# EAGLE library part TANG-PRIMER-25K_B (library TangPrimer25K_Dual - Copy)
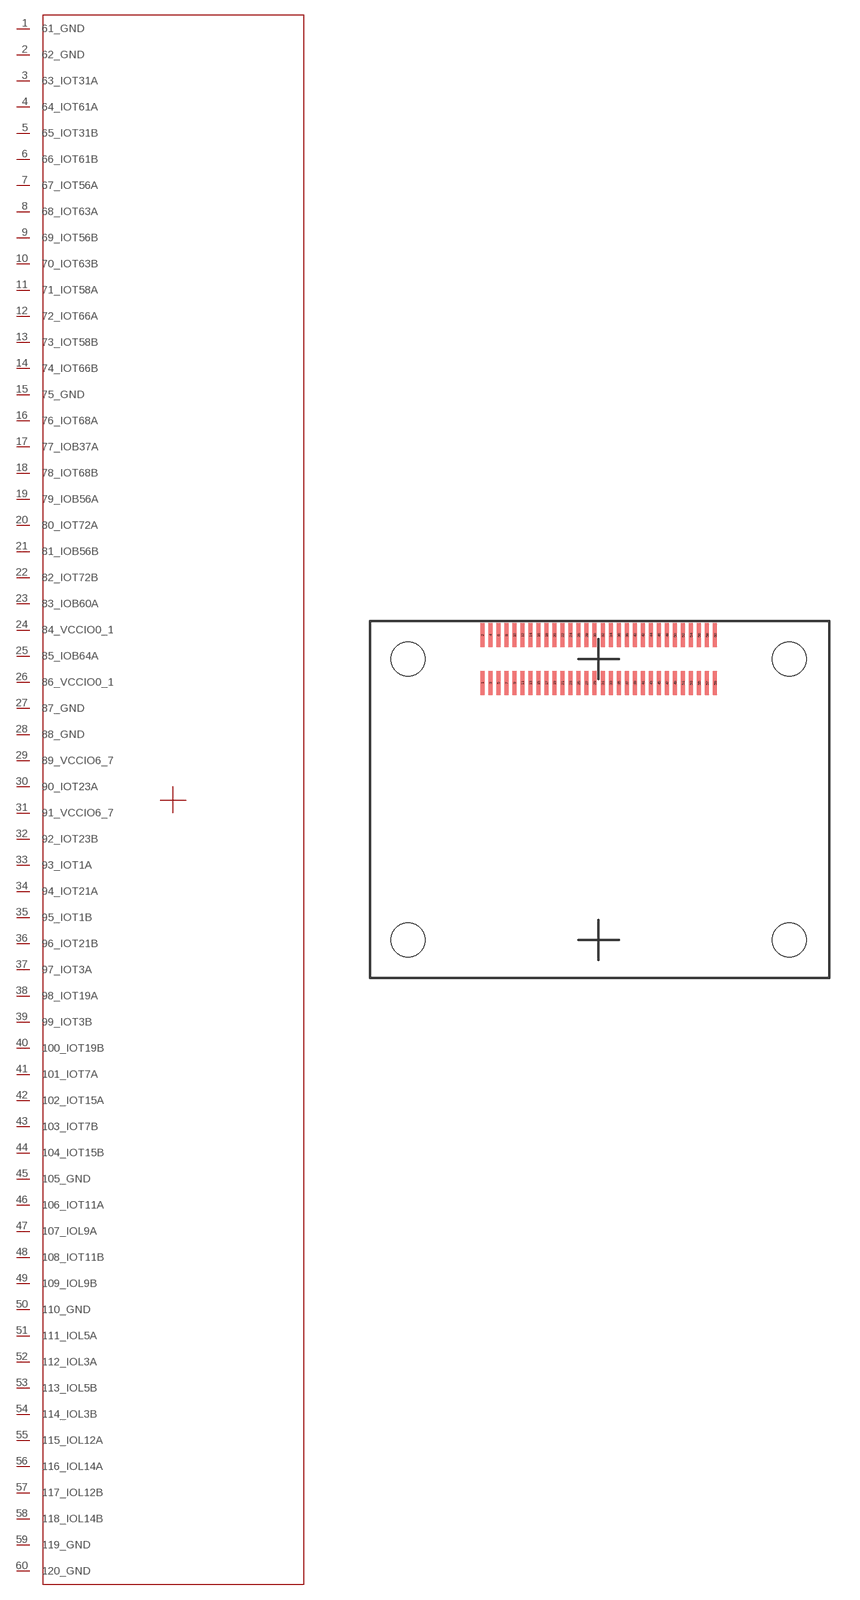
[diagram p0: symbol with the pads of SIPEED-TANG-PRIMER-25K_B; footprint SIPEED-TANG-PRIMER-25K_B]

Designator prefix U_B

## TANG-PRIMER-25K_B  [SIPEED-TANG-PRIMER-25K_B]
1  61_GND  pwr
2  62_GND  pwr
3  63_IOT31A
4  64_IOT61A
5  65_IOT31B
6  66_IOT61B
7  67_IOT56A
8  68_IOT63A
9  69_IOT56B
10  70_IOT63B
11  71_IOT58A
12  72_IOT66A
13  73_IOT58B
14  74_IOT66B
15  75_GND  pwr
16  76_IOT68A
17  77_IOB37A
18  78_IOT68B
19  79_IOB56A
20  80_IOT72A
21  81_IOB56B
22  82_IOT72B
23  83_IOB60A
24  84_VCCIO0_1  pwr
25  85_IOB64A
26  86_VCCIO0_1  pwr
27  87_GND  pwr
28  88_GND  pwr
29  89_VCCIO6_7  pwr
30  90_IOT23A
31  91_VCCIO6_7  pwr
32  92_IOT23B
33  93_IOT1A
34  94_IOT21A
35  95_IOT1B
36  96_IOT21B
37  97_IOT3A
38  98_IOT19A
39  99_IOT3B
40  100_IOT19B
41  101_IOT7A
42  102_IOT15A
43  103_IOT7B
44  104_IOT15B
45  105_GND  pwr
46  106_IOT11A
47  107_IOL9A
48  108_IOT11B
49  109_IOL9B
50  110_GND  pwr
51  111_IOL5A
52  112_IOL3A
53  113_IOL5B
54  114_IOL3B
55  115_IOL12A
56  116_IOL14A
57  117_IOL12B
58  118_IOL14B
59  119_GND  pwr
60  120_GND  pwr

## Footprint SIPEED-TANG-PRIMER-25K_B (pad centres in mm)
smd 0.2 x 1.2: 1 -5.8,-1.19; 2 -5.8,1.19; 3 -5.4,-1.19; 4 -5.4,1.19; 5 -5,-1.19; 6 -5,1.19; 7 -4.6,-1.19; 8 -4.6,1.19; 9 -4.2,-1.19; 10 -4.2,1.19; 11 -3.8,-1.19; 12 -3.8,1.19; 13 -3.4,-1.19; 14 -3.4,1.19; 15 -3,-1.19; 16 -3,1.19; 17 -2.6,-1.19; 18 -2.6,1.19; 19 -2.2,-1.19; 20 -2.2,1.19; 21 -1.8,-1.19; 22 -1.8,1.19; 23 -1.4,-1.19; 24 -1.4,1.19; 25 -1,-1.19; 26 -1,1.19; 27 -0.6,-1.19; 28 -0.6,1.19; 29 -0.2,-1.19; 30 -0.2,1.19; 31 0.2,-1.19; 32 0.2,1.19; 33 0.6,-1.19; 34 0.6,1.19; 35 1,-1.19; 36 1,1.19; 37 1.4,-1.19; 38 1.4,1.19; 39 1.8,-1.19; 40 1.8,1.19; 41 2.2,-1.19; 42 2.2,1.19; 43 2.6,-1.19; 44 2.6,1.19; 45 3,-1.19; 46 3,1.19; 47 3.4,-1.19; 48 3.4,1.19; 49 3.8,-1.19; 50 3.8,1.19; 51 4.2,-1.19; 52 4.2,1.19; 53 4.6,-1.19; 54 4.6,1.19; 55 5,-1.19; 56 5,1.19; 57 5.4,-1.19; 58 5.4,1.19; 59 5.8,-1.19; 60 5.8,1.19
hole 1.7 at -9.5,0
hole 1.7 at 9.5,0
hole 1.7 at 9.5,-14
hole 1.7 at -9.5,-14